# Altium integrated library TI Amplifiers and Linear Operational Amplifier High Speed.IntLib: 1100 symbols (part 6 of 44)
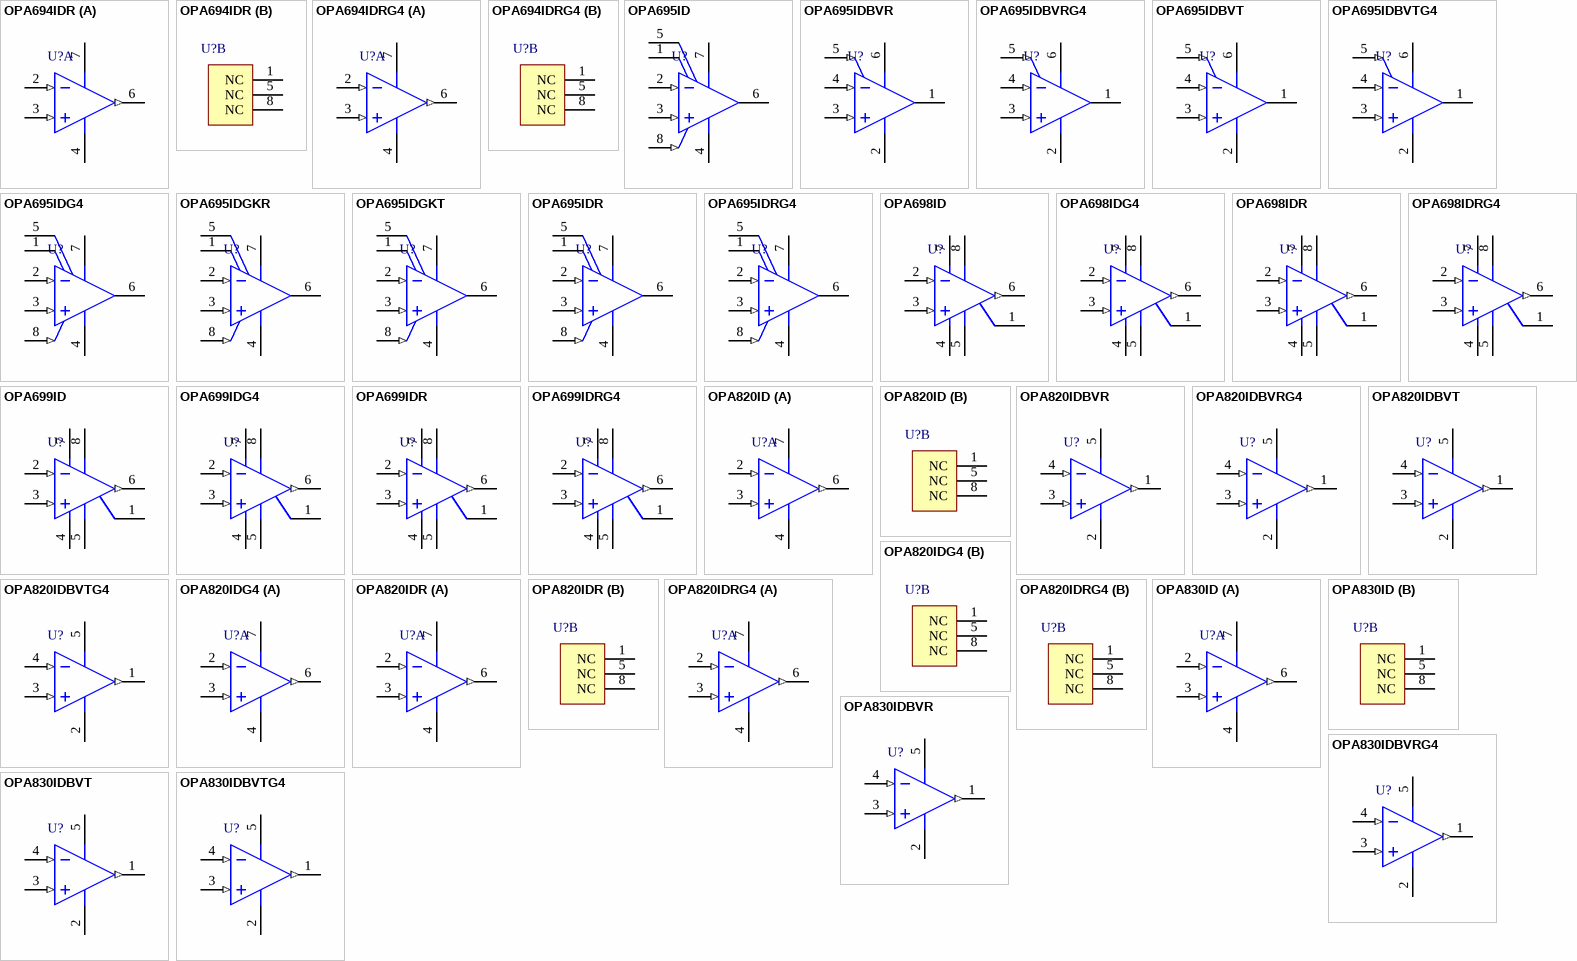
[diagram p56: symbols OPA694IDR to OPA830IDBVTG4]

## OPA698ID
designator U?
Unity Gain Stable, Wideband Voltage Limiting Amplifier, 5 to 12 V, -40 to 85 degC, 8-pin SOIC (D8), Green (RoHS & no Sb/Br); Manufacturer: Texas Instruments; PartNumber: OPA698ID; 2nd Harmonic(dBc): 74; 3rd Harmonic(dBc): 87; @ MHz: 5; Acl, min stable gain(V/V): 1; BW @ Acl(MHz): 450; Diff Gain(%): 0.012; Diff Phase(deg): 0.008; Iib(Max)(nA): 12000; Io(Typ)(mA): 120; Iq per channel(Max)(mA): 16.6; Settling Time (0.1%)(Typ)(ns): 15; Slew Rate(Typ)(V/us): 1100; Sub Family: High Output Current Amplifier (>=50mA), High Speed Amplifier (>=50MHz); THD (Fc is 1 MHz)(Typ)(dB): -90; Vn at Flatband(Typ)(nV/rtHz): 5.6; Vs(Max)(V): 12; DatasheetVersion: SBOS258D; PackageVersion: 4040047-3/M, 06/2011; PackageReference: D8; PackageDescription: 8-Pin Plastic Small Outline, Body 4.9 x 3.9 mm, Pitch 1.27 mm; Supplier 1: Digi-Key; Supplier Part Number 1: 296-15860-5-ND; Supplier 2: Newark; Supplier Part Number 2: 87H2080; Supplier 3: Mouser; Supplier Part Number 3: 595-OPA698ID; Eco-Plan: Green (RoHS & no Sb/Br); Number of Channels: 1; Vio(Max)(mV): 5; Vs(Min)(V): 5; Mounting Technology: Surface Mount; Code_JEDEC: MS-012; ComponentLink1Description: Manufacturer URL; ComponentLink1URL: http://www.ti.com/; ComponentLink2Description: Datasheet; ComponentLink2URL: http://www.ti.com/general/docs/lit/getliterature.tsp?genericPartNumber=OPA698&fileType=pdf; ComponentLink3Description: Package Specification; ComponentLink3URL: http://www.ti.com/litv/pdf/msoi002j
footprint TI-D8_N (SOIC, 8-Leads, Body 4.9x3.9mm, Pitch 1.27mm, IPC Medium Density)
footprint TI-D8_L (SOIC, 8-Leads, Body 4.9x3.9mm, Pitch 1.27mm, IPC High Density)
footprint TI-D8_M (SOIC, 8-Leads, Body 4.9x3.9mm, Pitch 1.27mm, IPC Low Density)
pins: 1 NC, 2 IN- (in), 3 IN+ (in), 4 VS- (power), 5 VL (power), 6 OUT (out), 7 VS+ (power), 8 VH (power)

## OPA698IDG4
designator U?
Unity Gain Stable, Wideband Voltage Limiting Amplifier, 5 to 12 V, -40 to 85 degC, 8-pin SOIC (D8), Green (RoHS & no Sb/Br); Manufacturer: Texas Instruments; PartNumber: OPA698IDG4; 2nd Harmonic(dBc): 74; 3rd Harmonic(dBc): 87; @ MHz: 5; Acl, min stable gain(V/V): 1; BW @ Acl(MHz): 450; Diff Gain(%): 0.012; Diff Phase(deg): 0.008; Iib(Max)(nA): 12000; Io(Typ)(mA): 120; Iq per channel(Max)(mA): 16.6; Settling Time (0.1%)(Typ)(ns): 15; Slew Rate(Typ)(V/us): 1100; Sub Family: High Output Current Amplifier (>=50mA), High Speed Amplifier (>=50MHz); THD (Fc is 1 MHz)(Typ)(dB): -90; Vn at Flatband(Typ)(nV/rtHz): 5.6; Vs(Max)(V): 12; DatasheetVersion: SBOS258D; PackageVersion: 4040047-3/M, 06/2011; PackageReference: D8; PackageDescription: 8-Pin Plastic Small Outline, Body 4.9 x 3.9 mm, Pitch 1.27 mm; Supplier 1: Digi-Key; Supplier Part Number 1: OPA698IDG4-ND; Supplier 2: Farnell; Supplier Part Number 2: 1180151; Supplier 3: Newark; Supplier Part Number 3: 26M1912; Supplier 4: Mouser; Supplier Part Number 4: 595-OPA698IDG4; Eco-Plan: Green (RoHS & no Sb/Br); Number of Channels: 1; Vio(Max)(mV): 5; Vs(Min)(V): 5; Mounting Technology: Surface Mount; Code_JEDEC: MS-012; ComponentLink1Description: Manufacturer URL; ComponentLink1URL: http://www.ti.com/; ComponentLink2Description: Datasheet; ComponentLink2URL: http://www.ti.com/general/docs/lit/getliterature.tsp?genericPartNumber=OPA698&fileType=pdf; ComponentLink3Description: Package Specification; ComponentLink3URL: http://www.ti.com/litv/pdf/msoi002j
footprint TI-D8_N (SOIC, 8-Leads, Body 4.9x3.9mm, Pitch 1.27mm, IPC Medium Density)
footprint TI-D8_L (SOIC, 8-Leads, Body 4.9x3.9mm, Pitch 1.27mm, IPC High Density)
footprint TI-D8_M (SOIC, 8-Leads, Body 4.9x3.9mm, Pitch 1.27mm, IPC Low Density)
pins: 1 NC, 2 IN- (in), 3 IN+ (in), 4 VS- (power), 5 VL (power), 6 OUT (out), 7 VS+ (power), 8 VH (power)

## OPA698IDR
designator U?
Unity Gain Stable, Wideband Voltage Limiting Amplifier, 5 to 12 V, -40 to 85 degC, 8-pin SOIC (D8), Green (RoHS & no Sb/Br); Manufacturer: Texas Instruments; PartNumber: OPA698IDR; 2nd Harmonic(dBc): 74; 3rd Harmonic(dBc): 87; @ MHz: 5; Acl, min stable gain(V/V): 1; BW @ Acl(MHz): 450; Diff Gain(%): 0.012; Diff Phase(deg): 0.008; Iib(Max)(nA): 12000; Io(Typ)(mA): 120; Iq per channel(Max)(mA): 16.6; Settling Time (0.1%)(Typ)(ns): 15; Slew Rate(Typ)(V/us): 1100; Sub Family: High Output Current Amplifier (>=50mA), High Speed Amplifier (>=50MHz); THD (Fc is 1 MHz)(Typ)(dB): -90; Vn at Flatband(Typ)(nV/rtHz): 5.6; Vs(Max)(V): 12; DatasheetVersion: SBOS258D; PackageVersion: 4040047-3/M, 06/2011; PackageReference: D8; PackageDescription: 8-Pin Plastic Small Outline, Body 4.9 x 3.9 mm, Pitch 1.27 mm; Supplier 1: Digi-Key; Supplier Part Number 1: OPA698IDR-ND; Supplier 2: Newark; Supplier Part Number 2: 87H2081; Supplier 3: Mouser; Supplier Part Number 3: 595-OPA698IDR; Eco-Plan: Green (RoHS & no Sb/Br); Number of Channels: 1; Vio(Max)(mV): 5; Vs(Min)(V): 5; Mounting Technology: Surface Mount; Code_JEDEC: MS-012; ComponentLink1Description: Manufacturer URL; ComponentLink1URL: http://www.ti.com/; ComponentLink2Description: Datasheet; ComponentLink2URL: http://www.ti.com/general/docs/lit/getliterature.tsp?genericPartNumber=OPA698&fileType=pdf; ComponentLink3Description: Package Specification; ComponentLink3URL: http://www.ti.com/litv/pdf/msoi002j
footprint TI-D8_N (SOIC, 8-Leads, Body 4.9x3.9mm, Pitch 1.27mm, IPC Medium Density)
footprint TI-D8_L (SOIC, 8-Leads, Body 4.9x3.9mm, Pitch 1.27mm, IPC High Density)
footprint TI-D8_M (SOIC, 8-Leads, Body 4.9x3.9mm, Pitch 1.27mm, IPC Low Density)
pins: 1 NC, 2 IN- (in), 3 IN+ (in), 4 VS- (power), 5 VL (power), 6 OUT (out), 7 VS+ (power), 8 VH (power)

## OPA698IDRG4
designator U?
Unity Gain Stable, Wideband Voltage Limiting Amplifier, 5 to 12 V, -40 to 85 degC, 8-pin SOIC (D8), Green (RoHS & no Sb/Br); Manufacturer: Texas Instruments; PartNumber: OPA698IDRG4; 2nd Harmonic(dBc): 74; 3rd Harmonic(dBc): 87; @ MHz: 5; Acl, min stable gain(V/V): 1; BW @ Acl(MHz): 450; Diff Gain(%): 0.012; Diff Phase(deg): 0.008; Iib(Max)(nA): 12000; Io(Typ)(mA): 120; Iq per channel(Max)(mA): 16.6; Settling Time (0.1%)(Typ)(ns): 15; Slew Rate(Typ)(V/us): 1100; Sub Family: High Output Current Amplifier (>=50mA), High Speed Amplifier (>=50MHz); THD (Fc is 1 MHz)(Typ)(dB): -90; Vn at Flatband(Typ)(nV/rtHz): 5.6; Vs(Max)(V): 12; DatasheetVersion: SBOS258D; PackageVersion: 4040047-3/M, 06/2011; PackageReference: D8; PackageDescription: 8-Pin Plastic Small Outline, Body 4.9 x 3.9 mm, Pitch 1.27 mm; Supplier 1: Digi-Key; Supplier Part Number 1: OPA698IDRG4-ND; Supplier 2: Newark; Supplier Part Number 2: 24K4697; Supplier 3: Mouser; Supplier Part Number 3: 595-OPA698IDRG4; Eco-Plan: Green (RoHS & no Sb/Br); Number of Channels: 1; Vio(Max)(mV): 5; Vs(Min)(V): 5; Mounting Technology: Surface Mount; Code_JEDEC: MS-012; ComponentLink1Description: Manufacturer URL; ComponentLink1URL: http://www.ti.com/; ComponentLink2Description: Datasheet; ComponentLink2URL: http://www.ti.com/general/docs/lit/getliterature.tsp?genericPartNumber=OPA698&fileType=pdf; ComponentLink3Description: Package Specification; ComponentLink3URL: http://www.ti.com/litv/pdf/msoi002j
footprint TI-D8_N (SOIC, 8-Leads, Body 4.9x3.9mm, Pitch 1.27mm, IPC Medium Density)
footprint TI-D8_L (SOIC, 8-Leads, Body 4.9x3.9mm, Pitch 1.27mm, IPC High Density)
footprint TI-D8_M (SOIC, 8-Leads, Body 4.9x3.9mm, Pitch 1.27mm, IPC Low Density)
pins: 1 NC, 2 IN- (in), 3 IN+ (in), 4 VS- (power), 5 VL (power), 6 OUT (out), 7 VS+ (power), 8 VH (power)

## OPA699ID
designator U?
Wideband, High Gain Voltage Limiting Amplifier, 5 to 12 V, -40 to 85 degC, 8-pin SOIC (D8), Green (RoHS & no Sb/Br); Manufacturer: Texas Instruments; PartNumber: OPA699ID; 2nd Harmonic(dBc): 67; 3rd Harmonic(dBc): 86; @ MHz: 5; Acl, min stable gain(V/V): 4; BW @ Acl(MHz): 260; Diff Gain(%): 0.012; Diff Phase(deg): 0.008; Iib(Max)(nA): 12000; Io(Typ)(mA): 120; Iq per channel(Max)(mA): 16.6; Number of Channels: 1; Settling Time (0.1%)(Typ)(ns): 7; Slew Rate(Typ)(V/us): 1400; Sub Family: High Output Current Amplifier (>=50mA), High Speed Amplifier (>=50MHz); THD (Fc is 1 MHz)(Typ)(dB): -83; Vn at Flatband(Typ)(nV/rtHz): 4.1; Vs(Max)(V): 12; DatasheetVersion: SBOS261D; PackageVersion: 4040047-3/M, 06/2011; PackageReference: D8; PackageDescription: 8-Pin Plastic Small Outline, Body 4.9 x 3.9 mm, Pitch 1.27 mm; Supplier 1: Digi-Key; Supplier Part Number 1: 296-15876-5-ND; Supplier 2: Farnell; Supplier Part Number 2: 2127022; Supplier 3: Newark; Supplier Part Number 3: 87H2082; Supplier 4: Mouser; Supplier Part Number 4: 595-OPA699ID; Eco-Plan: Green (RoHS & no Sb/Br); Vio(Max)(mV): 5; Vs(Min)(V): 5; Mounting Technology: Surface Mount; Code_JEDEC: MS-012; ComponentLink1Description: Manufacturer URL; ComponentLink1URL: http://www.ti.com/; ComponentLink2Description: Datasheet; ComponentLink2URL: http://www.ti.com/general/docs/lit/getliterature.tsp?genericPartNumber=OPA699&fileType=pdf; ComponentLink3Description: Package Specification; ComponentLink3URL: http://www.ti.com/litv/pdf/msoi002j
footprint TI-D8_N (SOIC, 8-Leads, Body 4.9x3.9mm, Pitch 1.27mm, IPC Medium Density)
footprint TI-D8_L (SOIC, 8-Leads, Body 4.9x3.9mm, Pitch 1.27mm, IPC High Density)
footprint TI-D8_M (SOIC, 8-Leads, Body 4.9x3.9mm, Pitch 1.27mm, IPC Low Density)
pins: 1 NC, 2 IN- (in), 3 IN+ (in), 4 VS- (power), 5 VL (power), 6 OUT (out), 7 VS+ (power), 8 VH (power)

## OPA699IDG4
designator U?
Wideband, High Gain Voltage Limiting Amplifier, 5 to 12 V, -40 to 85 degC, 8-pin SOIC (D8), Green (RoHS & no Sb/Br); Manufacturer: Texas Instruments; PartNumber: OPA699IDG4; 2nd Harmonic(dBc): 67; 3rd Harmonic(dBc): 86; @ MHz: 5; Acl, min stable gain(V/V): 4; BW @ Acl(MHz): 260; Diff Gain(%): 0.012; Diff Phase(deg): 0.008; Iib(Max)(nA): 12000; Io(Typ)(mA): 120; Iq per channel(Max)(mA): 16.6; Number of Channels: 1; Settling Time (0.1%)(Typ)(ns): 7; Slew Rate(Typ)(V/us): 1400; Sub Family: High Output Current Amplifier (>=50mA), High Speed Amplifier (>=50MHz); THD (Fc is 1 MHz)(Typ)(dB): -83; Vn at Flatband(Typ)(nV/rtHz): 4.1; Vs(Max)(V): 12; DatasheetVersion: SBOS261D; PackageVersion: 4040047-3/M, 06/2011; PackageReference: D8; PackageDescription: 8-Pin Plastic Small Outline, Body 4.9 x 3.9 mm, Pitch 1.27 mm; Supplier 1: Digi-Key; Supplier Part Number 1: OPA699IDG4-ND; Supplier 2: Farnell; Supplier Part Number 2: 1180152; Supplier 3: Newark; Supplier Part Number 3: 81K3713; Supplier 4: Mouser; Supplier Part Number 4: 595-OPA699IDG4; Eco-Plan: Green (RoHS & no Sb/Br); Vio(Max)(mV): 5; Vs(Min)(V): 5; Mounting Technology: Surface Mount; Code_JEDEC: MS-012; ComponentLink1Description: Manufacturer URL; ComponentLink1URL: http://www.ti.com/; ComponentLink2Description: Datasheet; ComponentLink2URL: http://www.ti.com/general/docs/lit/getliterature.tsp?genericPartNumber=OPA699&fileType=pdf; ComponentLink3Description: Package Specification; ComponentLink3URL: http://www.ti.com/litv/pdf/msoi002j
footprint TI-D8_N (SOIC, 8-Leads, Body 4.9x3.9mm, Pitch 1.27mm, IPC Medium Density)
footprint TI-D8_L (SOIC, 8-Leads, Body 4.9x3.9mm, Pitch 1.27mm, IPC High Density)
footprint TI-D8_M (SOIC, 8-Leads, Body 4.9x3.9mm, Pitch 1.27mm, IPC Low Density)
pins: 1 NC, 2 IN- (in), 3 IN+ (in), 4 VS- (power), 5 VL (power), 6 OUT (out), 7 VS+ (power), 8 VH (power)

## OPA699IDR
designator U?
Wideband, High Gain Voltage Limiting Amplifier, 5 to 12 V, -40 to 85 degC, 8-pin SOIC (D8), Green (RoHS & no Sb/Br); Manufacturer: Texas Instruments; PartNumber: OPA699IDR; 2nd Harmonic(dBc): 67; 3rd Harmonic(dBc): 86; @ MHz: 5; Acl, min stable gain(V/V): 4; BW @ Acl(MHz): 260; Diff Gain(%): 0.012; Diff Phase(deg): 0.008; Iib(Max)(nA): 12000; Io(Typ)(mA): 120; Iq per channel(Max)(mA): 16.6; Number of Channels: 1; Settling Time (0.1%)(Typ)(ns): 7; Slew Rate(Typ)(V/us): 1400; Sub Family: High Output Current Amplifier (>=50mA), High Speed Amplifier (>=50MHz); THD (Fc is 1 MHz)(Typ)(dB): -83; Vn at Flatband(Typ)(nV/rtHz): 4.1; Vs(Max)(V): 12; DatasheetVersion: SBOS261D; PackageVersion: 4040047-3/M, 06/2011; PackageReference: D8; PackageDescription: 8-Pin Plastic Small Outline, Body 4.9 x 3.9 mm, Pitch 1.27 mm; Supplier 1: Digi-Key; Supplier Part Number 1: OPA699IDR-ND; Supplier 2: Newark; Supplier Part Number 2: 87H2083; Supplier 3: Mouser; Supplier Part Number 3: 595-OPA699IDR; Eco-Plan: Green (RoHS & no Sb/Br); Vio(Max)(mV): 5; Vs(Min)(V): 5; Mounting Technology: Surface Mount; Code_JEDEC: MS-012; ComponentLink1Description: Manufacturer URL; ComponentLink1URL: http://www.ti.com/; ComponentLink2Description: Datasheet; ComponentLink2URL: http://www.ti.com/general/docs/lit/getliterature.tsp?genericPartNumber=OPA699&fileType=pdf; ComponentLink3Description: Package Specification; ComponentLink3URL: http://www.ti.com/litv/pdf/msoi002j
footprint TI-D8_N (SOIC, 8-Leads, Body 4.9x3.9mm, Pitch 1.27mm, IPC Medium Density)
footprint TI-D8_L (SOIC, 8-Leads, Body 4.9x3.9mm, Pitch 1.27mm, IPC High Density)
footprint TI-D8_M (SOIC, 8-Leads, Body 4.9x3.9mm, Pitch 1.27mm, IPC Low Density)
pins: 1 NC, 2 IN- (in), 3 IN+ (in), 4 VS- (power), 5 VL (power), 6 OUT (out), 7 VS+ (power), 8 VH (power)

## OPA699IDRG4
designator U?
Wideband, High Gain Voltage Limiting Amplifier, 5 to 12 V, -40 to 85 degC, 8-pin SOIC (D8), Green (RoHS & no Sb/Br); Manufacturer: Texas Instruments; PartNumber: OPA699IDRG4; 2nd Harmonic(dBc): 67; 3rd Harmonic(dBc): 86; @ MHz: 5; Acl, min stable gain(V/V): 4; BW @ Acl(MHz): 260; Diff Gain(%): 0.012; Diff Phase(deg): 0.008; Iib(Max)(nA): 12000; Io(Typ)(mA): 120; Iq per channel(Max)(mA): 16.6; Number of Channels: 1; Settling Time (0.1%)(Typ)(ns): 7; Slew Rate(Typ)(V/us): 1400; Sub Family: High Output Current Amplifier (>=50mA), High Speed Amplifier (>=50MHz); THD (Fc is 1 MHz)(Typ)(dB): -83; Vn at Flatband(Typ)(nV/rtHz): 4.1; Vs(Max)(V): 12; DatasheetVersion: SBOS261D; PackageVersion: 4040047-3/M, 06/2011; PackageReference: D8; PackageDescription: 8-Pin Plastic Small Outline, Body 4.9 x 3.9 mm, Pitch 1.27 mm; Supplier 1: Digi-Key; Supplier Part Number 1: OPA699IDRG4-ND; Supplier 2: Newark; Supplier Part Number 2: 80K2682; Supplier 3: Mouser; Supplier Part Number 3: 595-OPA699IDRG4; Eco-Plan: Green (RoHS & no Sb/Br); Vio(Max)(mV): 5; Vs(Min)(V): 5; Mounting Technology: Surface Mount; Code_JEDEC: MS-012; ComponentLink1Description: Manufacturer URL; ComponentLink1URL: http://www.ti.com/; ComponentLink2Description: Datasheet; ComponentLink2URL: http://www.ti.com/general/docs/lit/getliterature.tsp?genericPartNumber=OPA699&fileType=pdf; ComponentLink3Description: Package Specification; ComponentLink3URL: http://www.ti.com/litv/pdf/msoi002j
footprint TI-D8_N (SOIC, 8-Leads, Body 4.9x3.9mm, Pitch 1.27mm, IPC Medium Density)
footprint TI-D8_L (SOIC, 8-Leads, Body 4.9x3.9mm, Pitch 1.27mm, IPC High Density)
footprint TI-D8_M (SOIC, 8-Leads, Body 4.9x3.9mm, Pitch 1.27mm, IPC Low Density)
pins: 1 NC, 2 IN- (in), 3 IN+ (in), 4 VS- (power), 5 VL (power), 6 OUT (out), 7 VS+ (power), 8 VH (power)

## OPA820ID
designator U?
Unity Gain Stable, Low Noise, Voltage Feedback Operational Amplifier, 5 to 12 V, -40 to 85 degC, 8-pin SOIC (D8), Green (RoHS & no Sb/Br); Manufacturer: Texas Instruments; PartNumber: OPA820ID; 2nd Harmonic(dBc): 90; 3rd Harmonic(dBc): 110; @ MHz: 1; BW @ Acl(MHz): 700; Diff Gain(%): 0.01; Diff Phase(deg): 0.03; Iib(Max)(nA): 2300; Iq per channel(Max)(mA): 6.4; Settling Time (0.1%)(Typ)(ns): 26; Slew Rate(Typ)(V/us): 240; Sub Family: High Output Current Amplifier (>=50mA), High Speed Amplifier (>=50MHz); THD (Fc is 1 MHz)(Typ)(dB): -85; Vn at Flatband(Typ)(nV/rtHz): 2.5; Vs(Max)(V): 12; Vs(Min)(V): 5; DatasheetVersion: SBOS303C; PackageVersion: 4040047-3/M, 06/2011; PackageReference: D8; PackageDescription: 8-Pin Plastic Small Outline, Body 4.9 x 3.9 mm, Pitch 1.27 mm; Supplier 1: Digi-Key; Supplier Part Number 1: 296-17130-5-ND; Supplier 2: Farnell; Supplier Part Number 2: 1560648; Supplier 3: Newark; Supplier Part Number 3: 21J8856; Supplier 4: Mouser; Supplier Part Number 4: 595-OPA820ID; Acl, min stable gain(V/V): 1; Eco-Plan: Green (RoHS & no Sb/Br); Io(Typ)(mA): 110; Number of Channels: 1; Vio(Max)(mV): 1; Mounting Technology: Surface Mount; Code_JEDEC: MS-012; ComponentLink1Description: Manufacturer URL; ComponentLink1URL: http://www.ti.com/; ComponentLink2Description: Datasheet; ComponentLink2URL: http://www.ti.com/general/docs/lit/getliterature.tsp?genericPartNumber=OPA820&fileType=pdf; ComponentLink3Description: Package Specification; ComponentLink3URL: http://www.ti.com/litv/pdf/msoi002j
footprint TI-D8_N (SOIC, 8-Leads, Body 4.9x3.9mm, Pitch 1.27mm, IPC Medium Density)
footprint TI-D8_L (SOIC, 8-Leads, Body 4.9x3.9mm, Pitch 1.27mm, IPC High Density)
footprint TI-D8_M (SOIC, 8-Leads, Body 4.9x3.9mm, Pitch 1.27mm, IPC Low Density)
part A pins: 2 IN- (in), 3 IN+ (in), 4 VS- (power), 6 OUT (out), 7 VS+ (power)
part B pins: 1 NC, 5 NC, 8 NC

## OPA820IDBVR
designator U?
Unity Gain Stable, Low Noise, Voltage Feedback Operational Amplifier, 5 to 12 V, -40 to 85 degC, 5-pin SOT23 (DBV5), Green (RoHS & no Sb/Br); Manufacturer: Texas Instruments; PartNumber: OPA820IDBVR; 2nd Harmonic(dBc): 90; 3rd Harmonic(dBc): 110; @ MHz: 1; BW @ Acl(MHz): 700; Diff Gain(%): 0.01; Diff Phase(deg): 0.03; Iib(Max)(nA): 2300; Iq per channel(Max)(mA): 6.4; Settling Time (0.1%)(Typ)(ns): 26; Slew Rate(Typ)(V/us): 240; Sub Family: High Output Current Amplifier (>=50mA), High Speed Amplifier (>=50MHz); THD (Fc is 1 MHz)(Typ)(dB): -85; Vn at Flatband(Typ)(nV/rtHz): 2.5; Vs(Max)(V): 12; Vs(Min)(V): 5; DatasheetVersion: SBOS303C; PackageVersion: 4073253-4/K, 03/2006; PackageReference: DBV5; PackageDescription: 5-Pin Plastic Small Outline, Body 1.6 x 2.9 mm, Pitch 0.95 mm; Supplier 1: Digi-Key; Supplier Part Number 1: 296-32197-2-ND; Supplier 2: Digi-Key; Supplier Part Number 2: 296-32197-1-ND; Supplier 3: Digi-Key; Supplier Part Number 3: 296-32197-6-ND; Supplier 4: Newark; Supplier Part Number 4: 21J8857; Supplier 5: Mouser; Supplier Part Number 5: 595-OPA820IDBVR; Acl, min stable gain(V/V): 1; Eco-Plan: Green (RoHS & no Sb/Br); Io(Typ)(mA): 110; Number of Channels: 1; Vio(Max)(mV): 1; Mounting Technology: Surface Mount; Code_JEDEC: MO-178; ComponentLink1Description: Manufacturer URL; ComponentLink1URL: http://www.ti.com/; ComponentLink2Description: Datasheet; ComponentLink2URL: http://www.ti.com/general/docs/lit/getliterature.tsp?genericPartNumber=OPA820&fileType=pdf; ComponentLink3Description: Package Specification; ComponentLink3URL: http://www.ti.com/litv/pdf/mpds018i
footprint TI-DBV5_N (SOT23, 5-Leads, Body 2.9x1.6mm, Pitch 0.95mm, IPC Medium Density)
footprint TI-DBV5_L (SOT23, 5-Leads, Body 2.9x1.6mm, Pitch 0.95mm, IPC High Density)
footprint TI-DBV5_M (SOT23, 5-Leads, Body 2.9x1.6mm, Pitch 0.95mm, IPC Low Density)
pins: 1 OUT (out), 2 VS- (power), 3 IN+ (in), 4 IN- (in), 5 VS+ (power)

## OPA820IDBVRG4
designator U?
Unity Gain Stable, Low Noise, Voltage Feedback Operational Amplifier, 5 to 12 V, -40 to 85 degC, 5-pin SOT23 (DBV5), Green (RoHS & no Sb/Br); Manufacturer: Texas Instruments; PartNumber: OPA820IDBVRG4; 2nd Harmonic(dBc): 90; 3rd Harmonic(dBc): 110; @ MHz: 1; BW @ Acl(MHz): 700; Diff Gain(%): 0.01; Diff Phase(deg): 0.03; Iib(Max)(nA): 2300; Iq per channel(Max)(mA): 6.4; Settling Time (0.1%)(Typ)(ns): 26; Slew Rate(Typ)(V/us): 240; Sub Family: High Output Current Amplifier (>=50mA), High Speed Amplifier (>=50MHz); THD (Fc is 1 MHz)(Typ)(dB): -85; Vn at Flatband(Typ)(nV/rtHz): 2.5; Vs(Max)(V): 12; Vs(Min)(V): 5; DatasheetVersion: SBOS303C; PackageVersion: 4073253-4/K, 03/2006; PackageReference: DBV5; PackageDescription: 5-Pin Plastic Small Outline, Body 1.6 x 2.9 mm, Pitch 0.95 mm; Supplier 1: Digi-Key; Supplier Part Number 1: OPA820IDBVRG4-ND; Supplier 2: Farnell; Supplier Part Number 2: 9594000; Supplier 3: Mouser; Supplier Part Number 3: 595-OPA820IDBVRG4; Acl, min stable gain(V/V): 1; Eco-Plan: Green (RoHS & no Sb/Br); Io(Typ)(mA): 110; Number of Channels: 1; Vio(Max)(mV): 1; Mounting Technology: Surface Mount; Code_JEDEC: MO-178; ComponentLink1Description: Manufacturer URL; ComponentLink1URL: http://www.ti.com/; ComponentLink2Description: Datasheet; ComponentLink2URL: http://www.ti.com/general/docs/lit/getliterature.tsp?genericPartNumber=OPA820&fileType=pdf; ComponentLink3Description: Package Specification; ComponentLink3URL: http://www.ti.com/litv/pdf/mpds018i
footprint TI-DBV5_N (SOT23, 5-Leads, Body 2.9x1.6mm, Pitch 0.95mm, IPC Medium Density)
footprint TI-DBV5_L (SOT23, 5-Leads, Body 2.9x1.6mm, Pitch 0.95mm, IPC High Density)
footprint TI-DBV5_M (SOT23, 5-Leads, Body 2.9x1.6mm, Pitch 0.95mm, IPC Low Density)
pins: 1 OUT (out), 2 VS- (power), 3 IN+ (in), 4 IN- (in), 5 VS+ (power)

## OPA820IDBVT
designator U?
Unity Gain Stable, Low Noise, Voltage Feedback Operational Amplifier, 5 to 12 V, -40 to 85 degC, 5-pin SOT23 (DBV5), Green (RoHS & no Sb/Br); Manufacturer: Texas Instruments; PartNumber: OPA820IDBVT; 2nd Harmonic(dBc): 90; 3rd Harmonic(dBc): 110; @ MHz: 1; BW @ Acl(MHz): 700; Diff Gain(%): 0.01; Diff Phase(deg): 0.03; Iib(Max)(nA): 2300; Iq per channel(Max)(mA): 6.4; Settling Time (0.1%)(Typ)(ns): 26; Slew Rate(Typ)(V/us): 240; Sub Family: High Output Current Amplifier (>=50mA), High Speed Amplifier (>=50MHz); THD (Fc is 1 MHz)(Typ)(dB): -85; Vn at Flatband(Typ)(nV/rtHz): 2.5; Vs(Max)(V): 12; Vs(Min)(V): 5; DatasheetVersion: SBOS303C; PackageVersion: 4073253-4/K, 03/2006; PackageReference: DBV5; PackageDescription: 5-Pin Plastic Small Outline, Body 1.6 x 2.9 mm, Pitch 0.95 mm; Supplier 1: Digi-Key; Supplier Part Number 1: 296-17131-2-ND; Supplier 2: Digi-Key; Supplier Part Number 2: 296-17131-1-ND; Supplier 3: Digi-Key; Supplier Part Number 3: 296-17131-6-ND; Supplier 4: Farnell; Supplier Part Number 4: 1574989; Supplier 5: Newark; Supplier Part Number 5: 21J8858; Supplier 6: Mouser; Supplier Part Number 6: 595-OPA820IDBVT; Acl, min stable gain(V/V): 1; Eco-Plan: Green (RoHS & no Sb/Br); Io(Typ)(mA): 110; Number of Channels: 1; Vio(Max)(mV): 1; Mounting Technology: Surface Mount; Code_JEDEC: MO-178; ComponentLink1Description: Manufacturer URL; ComponentLink1URL: http://www.ti.com/; ComponentLink2Description: Datasheet; ComponentLink2URL: http://www.ti.com/general/docs/lit/getliterature.tsp?genericPartNumber=OPA820&fileType=pdf; ComponentLink3Description: Package Specification; ComponentLink3URL: http://www.ti.com/litv/pdf/mpds018i
footprint TI-DBV5_N (SOT23, 5-Leads, Body 2.9x1.6mm, Pitch 0.95mm, IPC Medium Density)
footprint TI-DBV5_L (SOT23, 5-Leads, Body 2.9x1.6mm, Pitch 0.95mm, IPC High Density)
footprint TI-DBV5_M (SOT23, 5-Leads, Body 2.9x1.6mm, Pitch 0.95mm, IPC Low Density)
pins: 1 OUT (out), 2 VS- (power), 3 IN+ (in), 4 IN- (in), 5 VS+ (power)

## OPA820IDBVTG4
designator U?
Unity Gain Stable, Low Noise, Voltage Feedback Operational Amplifier, 5 to 12 V, -40 to 85 degC, 5-pin SOT23 (DBV5), Green (RoHS & no Sb/Br); Manufacturer: Texas Instruments; PartNumber: OPA820IDBVTG4; 2nd Harmonic(dBc): 90; 3rd Harmonic(dBc): 110; @ MHz: 1; BW @ Acl(MHz): 700; Diff Gain(%): 0.01; Diff Phase(deg): 0.03; Iib(Max)(nA): 2300; Iq per channel(Max)(mA): 6.4; Settling Time (0.1%)(Typ)(ns): 26; Slew Rate(Typ)(V/us): 240; Sub Family: High Output Current Amplifier (>=50mA), High Speed Amplifier (>=50MHz); THD (Fc is 1 MHz)(Typ)(dB): -85; Vn at Flatband(Typ)(nV/rtHz): 2.5; Vs(Max)(V): 12; Vs(Min)(V): 5; DatasheetVersion: SBOS303C; PackageVersion: 4073253-4/K, 03/2006; PackageReference: DBV5; PackageDescription: 5-Pin Plastic Small Outline, Body 1.6 x 2.9 mm, Pitch 0.95 mm; Supplier 1: Digi-Key; Supplier Part Number 1: OPA820IDBVTG4-ND; Supplier 2: Mouser; Supplier Part Number 2: 595-OPA820IDBVTG4; Acl, min stable gain(V/V): 1; Eco-Plan: Green (RoHS & no Sb/Br); Io(Typ)(mA): 110; Number of Channels: 1; Vio(Max)(mV): 1; Mounting Technology: Surface Mount; Code_JEDEC: MO-178; ComponentLink1Description: Manufacturer URL; ComponentLink1URL: http://www.ti.com/; ComponentLink2Description: Datasheet; ComponentLink2URL: http://www.ti.com/general/docs/lit/getliterature.tsp?genericPartNumber=OPA820&fileType=pdf; ComponentLink3Description: Package Specification; ComponentLink3URL: http://www.ti.com/litv/pdf/mpds018i
footprint TI-DBV5_N (SOT23, 5-Leads, Body 2.9x1.6mm, Pitch 0.95mm, IPC Medium Density)
footprint TI-DBV5_L (SOT23, 5-Leads, Body 2.9x1.6mm, Pitch 0.95mm, IPC High Density)
footprint TI-DBV5_M (SOT23, 5-Leads, Body 2.9x1.6mm, Pitch 0.95mm, IPC Low Density)
pins: 1 OUT (out), 2 VS- (power), 3 IN+ (in), 4 IN- (in), 5 VS+ (power)

## OPA820IDG4
designator U?
Unity Gain Stable, Low Noise, Voltage Feedback Operational Amplifier, 5 to 12 V, -40 to 85 degC, 8-pin SOIC (D8), Green (RoHS & no Sb/Br); Manufacturer: Texas Instruments; PartNumber: OPA820IDG4; 2nd Harmonic(dBc): 90; 3rd Harmonic(dBc): 110; @ MHz: 1; BW @ Acl(MHz): 700; Diff Gain(%): 0.01; Diff Phase(deg): 0.03; Iib(Max)(nA): 2300; Iq per channel(Max)(mA): 6.4; Settling Time (0.1%)(Typ)(ns): 26; Slew Rate(Typ)(V/us): 240; Sub Family: High Output Current Amplifier (>=50mA), High Speed Amplifier (>=50MHz); THD (Fc is 1 MHz)(Typ)(dB): -85; Vn at Flatband(Typ)(nV/rtHz): 2.5; Vs(Max)(V): 12; Vs(Min)(V): 5; DatasheetVersion: SBOS303C; PackageVersion: 4040047-3/M, 06/2011; PackageReference: D8; PackageDescription: 8-Pin Plastic Small Outline, Body 4.9 x 3.9 mm, Pitch 1.27 mm; Supplier 1: Digi-Key; Supplier Part Number 1: OPA820IDG4-ND; Supplier 2: Farnell; Supplier Part Number 2: 1180135; Supplier 3: Mouser; Supplier Part Number 3: 595-OPA820IDG4; Acl, min stable gain(V/V): 1; Eco-Plan: Green (RoHS & no Sb/Br); Io(Typ)(mA): 110; Number of Channels: 1; Vio(Max)(mV): 1; Mounting Technology: Surface Mount; Code_JEDEC: MS-012; ComponentLink1Description: Manufacturer URL; ComponentLink1URL: http://www.ti.com/; ComponentLink2Description: Datasheet; ComponentLink2URL: http://www.ti.com/general/docs/lit/getliterature.tsp?genericPartNumber=OPA820&fileType=pdf; ComponentLink3Description: Package Specification; ComponentLink3URL: http://www.ti.com/litv/pdf/msoi002j
footprint TI-D8_N (SOIC, 8-Leads, Body 4.9x3.9mm, Pitch 1.27mm, IPC Medium Density)
footprint TI-D8_L (SOIC, 8-Leads, Body 4.9x3.9mm, Pitch 1.27mm, IPC High Density)
footprint TI-D8_M (SOIC, 8-Leads, Body 4.9x3.9mm, Pitch 1.27mm, IPC Low Density)
part A pins: 2 IN- (in), 3 IN+ (in), 4 VS- (power), 6 OUT (out), 7 VS+ (power)
part B pins: 1 NC, 5 NC, 8 NC

## OPA820IDR
designator U?
Unity Gain Stable, Low Noise, Voltage Feedback Operational Amplifier, 5 to 12 V, -40 to 85 degC, 8-pin SOIC (D8), Green (RoHS & no Sb/Br); Manufacturer: Texas Instruments; PartNumber: OPA820IDR; 2nd Harmonic(dBc): 90; 3rd Harmonic(dBc): 110; @ MHz: 1; BW @ Acl(MHz): 700; Diff Gain(%): 0.01; Diff Phase(deg): 0.03; Iib(Max)(nA): 2300; Iq per channel(Max)(mA): 6.4; Settling Time (0.1%)(Typ)(ns): 26; Slew Rate(Typ)(V/us): 240; Sub Family: High Output Current Amplifier (>=50mA), High Speed Amplifier (>=50MHz); THD (Fc is 1 MHz)(Typ)(dB): -85; Vn at Flatband(Typ)(nV/rtHz): 2.5; Vs(Max)(V): 12; Vs(Min)(V): 5; DatasheetVersion: SBOS303C; PackageVersion: 4040047-3/M, 06/2011; PackageReference: D8; PackageDescription: 8-Pin Plastic Small Outline, Body 4.9 x 3.9 mm, Pitch 1.27 mm; Supplier 1: Digi-Key; Supplier Part Number 1: OPA820IDR-ND; Supplier 2: Newark; Supplier Part Number 2: 21J8859; Supplier 3: Mouser; Supplier Part Number 3: 595-OPA820IDR; Acl, min stable gain(V/V): 1; Eco-Plan: Green (RoHS & no Sb/Br); Io(Typ)(mA): 110; Number of Channels: 1; Vio(Max)(mV): 1; Mounting Technology: Surface Mount; Code_JEDEC: MS-012; ComponentLink1Description: Manufacturer URL; ComponentLink1URL: http://www.ti.com/; ComponentLink2Description: Datasheet; ComponentLink2URL: http://www.ti.com/general/docs/lit/getliterature.tsp?genericPartNumber=OPA820&fileType=pdf; ComponentLink3Description: Package Specification; ComponentLink3URL: http://www.ti.com/litv/pdf/msoi002j
footprint TI-D8_N (SOIC, 8-Leads, Body 4.9x3.9mm, Pitch 1.27mm, IPC Medium Density)
footprint TI-D8_L (SOIC, 8-Leads, Body 4.9x3.9mm, Pitch 1.27mm, IPC High Density)
footprint TI-D8_M (SOIC, 8-Leads, Body 4.9x3.9mm, Pitch 1.27mm, IPC Low Density)
part A pins: 2 IN- (in), 3 IN+ (in), 4 VS- (power), 6 OUT (out), 7 VS+ (power)
part B pins: 1 NC, 5 NC, 8 NC

## OPA820IDRG4
designator U?
Unity Gain Stable, Low Noise, Voltage Feedback Operational Amplifier, 5 to 12 V, -40 to 85 degC, 8-pin SOIC (D8), Green (RoHS & no Sb/Br); Manufacturer: Texas Instruments; PartNumber: OPA820IDRG4; 2nd Harmonic(dBc): 90; 3rd Harmonic(dBc): 110; @ MHz: 1; BW @ Acl(MHz): 700; Diff Gain(%): 0.01; Diff Phase(deg): 0.03; Iib(Max)(nA): 2300; Iq per channel(Max)(mA): 6.4; Settling Time (0.1%)(Typ)(ns): 26; Slew Rate(Typ)(V/us): 240; Sub Family: High Output Current Amplifier (>=50mA), High Speed Amplifier (>=50MHz); THD (Fc is 1 MHz)(Typ)(dB): -85; Vn at Flatband(Typ)(nV/rtHz): 2.5; Vs(Max)(V): 12; Vs(Min)(V): 5; DatasheetVersion: SBOS303C; PackageVersion: 4040047-3/M, 06/2011; PackageReference: D8; PackageDescription: 8-Pin Plastic Small Outline, Body 4.9 x 3.9 mm, Pitch 1.27 mm; Supplier 1: Digi-Key; Supplier Part Number 1: OPA820IDRG4-ND; Supplier 2: Mouser; Supplier Part Number 2: 595-OPA820IDRG4; Acl, min stable gain(V/V): 1; Eco-Plan: Green (RoHS & no Sb/Br); Io(Typ)(mA): 110; Number of Channels: 1; Vio(Max)(mV): 1; Mounting Technology: Surface Mount; Code_JEDEC: MS-012; ComponentLink1Description: Manufacturer URL; ComponentLink1URL: http://www.ti.com/; ComponentLink2Description: Datasheet; ComponentLink2URL: http://www.ti.com/general/docs/lit/getliterature.tsp?genericPartNumber=OPA820&fileType=pdf; ComponentLink3Description: Package Specification; ComponentLink3URL: http://www.ti.com/litv/pdf/msoi002j
footprint TI-D8_N (SOIC, 8-Leads, Body 4.9x3.9mm, Pitch 1.27mm, IPC Medium Density)
footprint TI-D8_L (SOIC, 8-Leads, Body 4.9x3.9mm, Pitch 1.27mm, IPC High Density)
footprint TI-D8_M (SOIC, 8-Leads, Body 4.9x3.9mm, Pitch 1.27mm, IPC Low Density)
part A pins: 2 IN- (in), 3 IN+ (in), 4 VS- (power), 6 OUT (out), 7 VS+ (power)
part B pins: 1 NC, 5 NC, 8 NC

## OPA830ID
designator U?
Low-Power, Single-Supply Operational Amplifier, 2.8 to 11 V, -40 to 85 degC, 8-pin SOIC (D8), Green (RoHS & no Sb/Br); Manufacturer: Texas Instruments; PartNumber: OPA830ID; Acl, min stable gain(V/V): 1; BW @ Acl(MHz): 250; Iib(Max)(nA): 10; Io(Typ)(mA): 80; Rail-Rail: Out; Sub Family: High Output Current Amplifier (>=50mA), High Speed Amplifier (>=50MHz), Low Offset Voltage Amplifier (<=500uV); Vio(Max)(mV): 0.5; Vn at Flatband(Typ)(nV/rtHz): 9.2; Vs(Max)(V): 11; Vs(Min)(V): 2.8; DatasheetVersion: SBOS263F; PackageVersion: 4040047-3/M, 06/2011; PackageReference: D8; PackageDescription: 8-Pin Plastic Small Outline, Body 4.9 x 3.9 mm, Pitch 1.27 mm; Supplier 1: Digi-Key; Supplier Part Number 1: 296-17400-5-ND; Supplier 2: Newark; Supplier Part Number 2: 43J9656; Supplier 3: Mouser; Supplier Part Number 3: 595-OPA830ID; Eco-Plan: Green (RoHS & no Sb/Br); Number of Channels: 1; Mounting Technology: Surface Mount; Code_JEDEC: MS-012; ComponentLink1Description: Manufacturer URL; ComponentLink1URL: http://www.ti.com/; ComponentLink2Description: Datasheet; ComponentLink2URL: http://www.ti.com/general/docs/lit/getliterature.tsp?genericPartNumber=OPA830&fileType=pdf; ComponentLink3Description: Package Specification; ComponentLink3URL: http://www.ti.com/litv/pdf/msoi002j
footprint TI-D8_N (SOIC, 8-Leads, Body 4.9x3.9mm, Pitch 1.27mm, IPC Medium Density)
footprint TI-D8_L (SOIC, 8-Leads, Body 4.9x3.9mm, Pitch 1.27mm, IPC High Density)
footprint TI-D8_M (SOIC, 8-Leads, Body 4.9x3.9mm, Pitch 1.27mm, IPC Low Density)
part A pins: 2 IN- (in), 3 IN+ (in), 4 VS- (power), 6 OUT (out), 7 VS+ (power)
part B pins: 1 NC, 5 NC, 8 NC

## OPA830IDBVR
designator U?
Low-Power, Single-Supply Operational Amplifier, 2.8 to 11 V, -40 to 85 degC, 5-pin SOT23 (DBV5), Green (RoHS & no Sb/Br); Manufacturer: Texas Instruments; PartNumber: OPA830IDBVR; Acl, min stable gain(V/V): 1; BW @ Acl(MHz): 250; Iib(Max)(nA): 10; Io(Typ)(mA): 80; Rail-Rail: Out; Sub Family: High Output Current Amplifier (>=50mA), High Speed Amplifier (>=50MHz), Low Offset Voltage Amplifier (<=500uV); Vio(Max)(mV): 0.5; Vn at Flatband(Typ)(nV/rtHz): 9.2; Vs(Max)(V): 11; Vs(Min)(V): 2.8; DatasheetVersion: SBOS263F; PackageVersion: 4073253-4/K, 03/2006; PackageReference: DBV5; PackageDescription: 5-Pin Plastic Small Outline, Body 1.6 x 2.9 mm, Pitch 0.95 mm; Supplier 1: Digi-Key; Supplier Part Number 1: OPA830IDBVR-ND; Supplier 2: Newark; Supplier Part Number 2: 43J9657; Supplier 3: Mouser; Supplier Part Number 3: 595-OPA830IDBVR; Eco-Plan: Green (RoHS & no Sb/Br); Number of Channels: 1; Mounting Technology: Surface Mount; Code_JEDEC: MO-178; ComponentLink1Description: Manufacturer URL; ComponentLink1URL: http://www.ti.com/; ComponentLink2Description: Datasheet; ComponentLink2URL: http://www.ti.com/general/docs/lit/getliterature.tsp?genericPartNumber=OPA830&fileType=pdf; ComponentLink3Description: Package Specification; ComponentLink3URL: http://www.ti.com/litv/pdf/mpds018i
footprint TI-DBV5_N (SOT23, 5-Leads, Body 2.9x1.6mm, Pitch 0.95mm, IPC Medium Density)
footprint TI-DBV5_L (SOT23, 5-Leads, Body 2.9x1.6mm, Pitch 0.95mm, IPC High Density)
footprint TI-DBV5_M (SOT23, 5-Leads, Body 2.9x1.6mm, Pitch 0.95mm, IPC Low Density)
pins: 1 OUT (out), 2 VS- (power), 3 IN+ (in), 4 IN- (in), 5 VS+ (power)

## OPA830IDBVRG4
designator U?
Low-Power, Single-Supply Operational Amplifier, 2.8 to 11 V, -40 to 85 degC, 5-pin SOT23 (DBV5), Green (RoHS & no Sb/Br); Manufacturer: Texas Instruments; PartNumber: OPA830IDBVRG4; Acl, min stable gain(V/V): 1; BW @ Acl(MHz): 250; Iib(Max)(nA): 10; Io(Typ)(mA): 80; Rail-Rail: Out; Sub Family: High Output Current Amplifier (>=50mA), High Speed Amplifier (>=50MHz), Low Offset Voltage Amplifier (<=500uV); Vio(Max)(mV): 0.5; Vn at Flatband(Typ)(nV/rtHz): 9.2; Vs(Max)(V): 11; Vs(Min)(V): 2.8; DatasheetVersion: SBOS263F; PackageVersion: 4073253-4/K, 03/2006; PackageReference: DBV5; PackageDescription: 5-Pin Plastic Small Outline, Body 1.6 x 2.9 mm, Pitch 0.95 mm; Supplier 1: Digi-Key; Supplier Part Number 1: OPA830IDBVRG4-ND; Supplier 2: Newark; Supplier Part Number 2: 24K4699; Supplier 3: Mouser; Supplier Part Number 3: 595-OPA830IDBVRG4; Eco-Plan: Green (RoHS & no Sb/Br); Number of Channels: 1; Mounting Technology: Surface Mount; Code_JEDEC: MO-178; ComponentLink1Description: Manufacturer URL; ComponentLink1URL: http://www.ti.com/; ComponentLink2Description: Datasheet; ComponentLink2URL: http://www.ti.com/general/docs/lit/getliterature.tsp?genericPartNumber=OPA830&fileType=pdf; ComponentLink3Description: Package Specification; ComponentLink3URL: http://www.ti.com/litv/pdf/mpds018i
footprint TI-DBV5_N (SOT23, 5-Leads, Body 2.9x1.6mm, Pitch 0.95mm, IPC Medium Density)
footprint TI-DBV5_L (SOT23, 5-Leads, Body 2.9x1.6mm, Pitch 0.95mm, IPC High Density)
footprint TI-DBV5_M (SOT23, 5-Leads, Body 2.9x1.6mm, Pitch 0.95mm, IPC Low Density)
pins: 1 OUT (out), 2 VS- (power), 3 IN+ (in), 4 IN- (in), 5 VS+ (power)

## OPA830IDBVT
designator U?
Low-Power, Single-Supply Operational Amplifier, 2.8 to 11 V, -40 to 85 degC, 5-pin SOT23 (DBV5), Green (RoHS & no Sb/Br); Manufacturer: Texas Instruments; PartNumber: OPA830IDBVT; Acl, min stable gain(V/V): 1; BW @ Acl(MHz): 250; Iib(Max)(nA): 10; Io(Typ)(mA): 80; Rail-Rail: Out; Sub Family: High Output Current Amplifier (>=50mA), High Speed Amplifier (>=50MHz), Low Offset Voltage Amplifier (<=500uV); Vio(Max)(mV): 0.5; Vn at Flatband(Typ)(nV/rtHz): 9.2; Vs(Max)(V): 11; Vs(Min)(V): 2.8; DatasheetVersion: SBOS263F; PackageVersion: 4073253-4/K, 03/2006; PackageReference: DBV5; PackageDescription: 5-Pin Plastic Small Outline, Body 1.6 x 2.9 mm, Pitch 0.95 mm; Supplier 1: Digi-Key; Supplier Part Number 1: 296-17401-2-ND; Supplier 2: Digi-Key; Supplier Part Number 2: 296-17401-1-ND; Supplier 3: Digi-Key; Supplier Part Number 3: 296-17401-6-ND; Supplier 4: Newark; Supplier Part Number 4: 43J9658; Supplier 5: Mouser; Supplier Part Number 5: 595-OPA830IDBVT; Eco-Plan: Green (RoHS & no Sb/Br); Number of Channels: 1; Mounting Technology: Surface Mount; Code_JEDEC: MO-178; ComponentLink1Description: Manufacturer URL; ComponentLink1URL: http://www.ti.com/; ComponentLink2Description: Datasheet; ComponentLink2URL: http://www.ti.com/general/docs/lit/getliterature.tsp?genericPartNumber=OPA830&fileType=pdf; ComponentLink3Description: Package Specification; ComponentLink3URL: http://www.ti.com/litv/pdf/mpds018i
footprint TI-DBV5_N (SOT23, 5-Leads, Body 2.9x1.6mm, Pitch 0.95mm, IPC Medium Density)
footprint TI-DBV5_L (SOT23, 5-Leads, Body 2.9x1.6mm, Pitch 0.95mm, IPC High Density)
footprint TI-DBV5_M (SOT23, 5-Leads, Body 2.9x1.6mm, Pitch 0.95mm, IPC Low Density)
pins: 1 OUT (out), 2 VS- (power), 3 IN+ (in), 4 IN- (in), 5 VS+ (power)

## OPA830IDBVTG4
designator U?
Low-Power, Single-Supply Operational Amplifier, 2.8 to 11 V, -40 to 85 degC, 5-pin SOT23 (DBV5), Green (RoHS & no Sb/Br); Manufacturer: Texas Instruments; PartNumber: OPA830IDBVTG4; Acl, min stable gain(V/V): 1; BW @ Acl(MHz): 250; Iib(Max)(nA): 10; Io(Typ)(mA): 80; Rail-Rail: Out; Sub Family: High Output Current Amplifier (>=50mA), High Speed Amplifier (>=50MHz), Low Offset Voltage Amplifier (<=500uV); Vio(Max)(mV): 0.5; Vn at Flatband(Typ)(nV/rtHz): 9.2; Vs(Max)(V): 11; Vs(Min)(V): 2.8; DatasheetVersion: SBOS263F; PackageVersion: 4073253-4/K, 03/2006; PackageReference: DBV5; PackageDescription: 5-Pin Plastic Small Outline, Body 1.6 x 2.9 mm, Pitch 0.95 mm; Supplier 1: Digi-Key; Supplier Part Number 1: OPA830IDBVTG4-ND; Supplier 2: Newark; Supplier Part Number 2: 24K4700; Supplier 3: Mouser; Supplier Part Number 3: 595-OPA830IDBVTG4; Eco-Plan: Green (RoHS & no Sb/Br); Number of Channels: 1; Mounting Technology: Surface Mount; Code_JEDEC: MO-178; ComponentLink1Description: Manufacturer URL; ComponentLink1URL: http://www.ti.com/; ComponentLink2Description: Datasheet; ComponentLink2URL: http://www.ti.com/general/docs/lit/getliterature.tsp?genericPartNumber=OPA830&fileType=pdf; ComponentLink3Description: Package Specification; ComponentLink3URL: http://www.ti.com/litv/pdf/mpds018i
footprint TI-DBV5_N (SOT23, 5-Leads, Body 2.9x1.6mm, Pitch 0.95mm, IPC Medium Density)
footprint TI-DBV5_L (SOT23, 5-Leads, Body 2.9x1.6mm, Pitch 0.95mm, IPC High Density)
footprint TI-DBV5_M (SOT23, 5-Leads, Body 2.9x1.6mm, Pitch 0.95mm, IPC Low Density)
pins: 1 OUT (out), 2 VS- (power), 3 IN+ (in), 4 IN- (in), 5 VS+ (power)

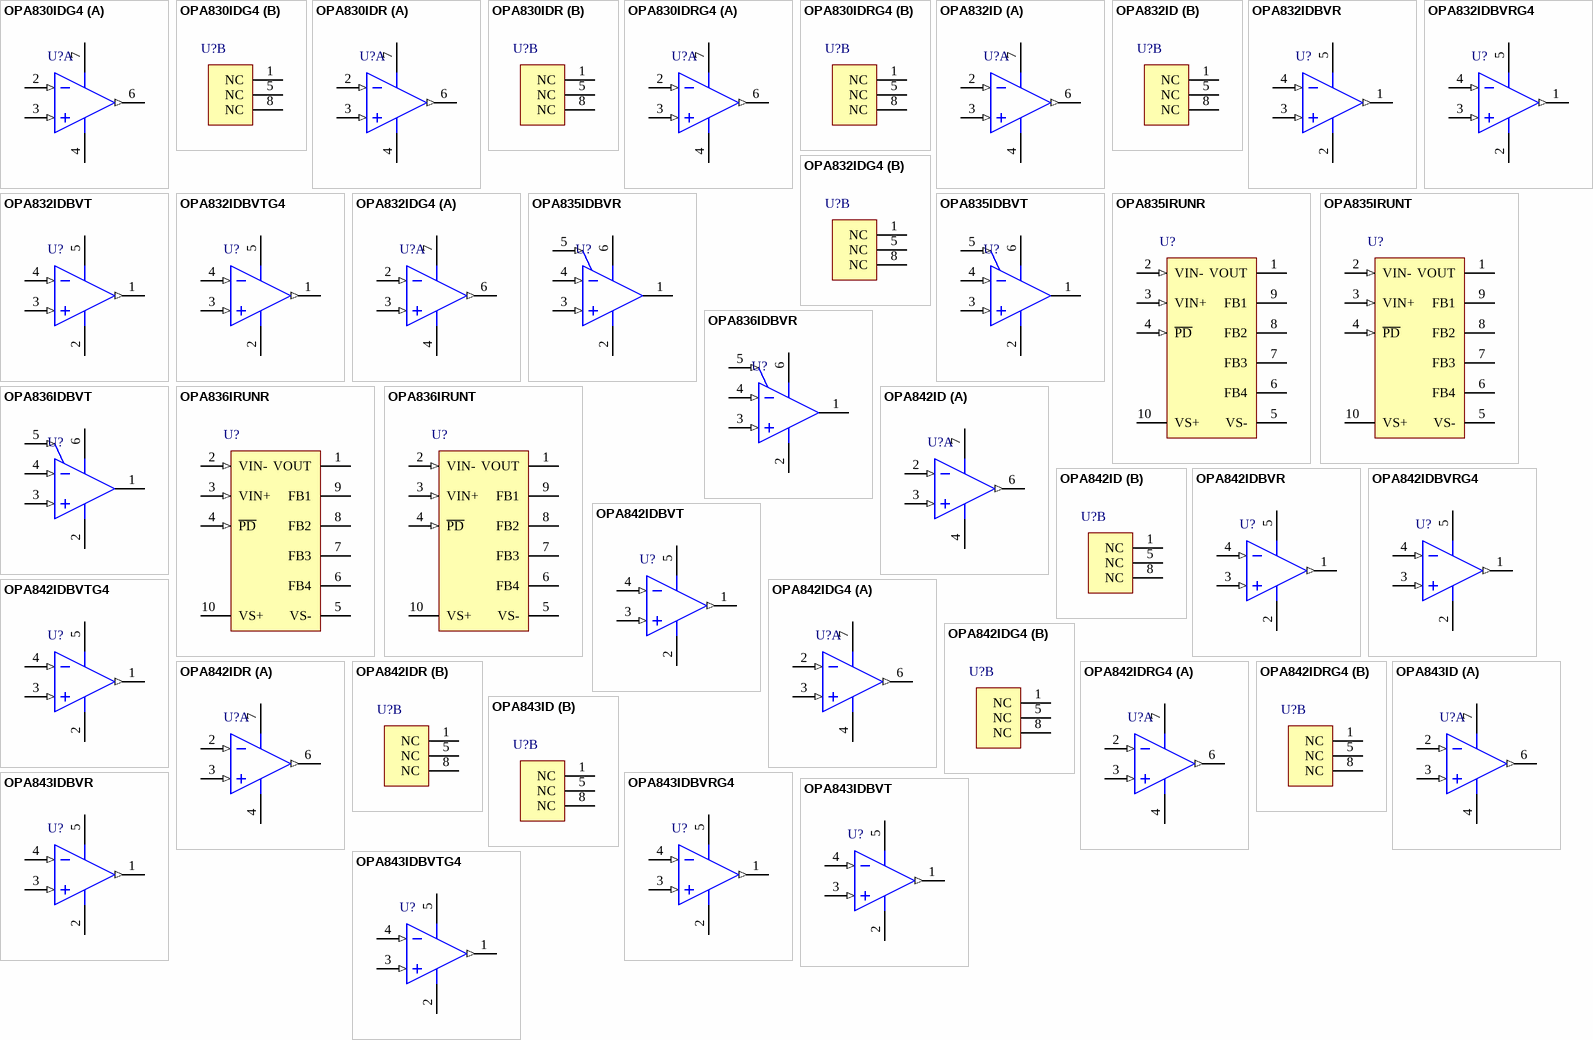
[diagram p5: symbols OPA830IDG4 to OPA843IDBVTG4]

## OPA830IDG4
designator U?
Low-Power, Single-Supply Operational Amplifier, 2.8 to 11 V, -40 to 85 degC, 8-pin SOIC (D8), Green (RoHS & no Sb/Br); Manufacturer: Texas Instruments; PartNumber: OPA830IDG4; Acl, min stable gain(V/V): 1; BW @ Acl(MHz): 250; Iib(Max)(nA): 10; Io(Typ)(mA): 80; Rail-Rail: Out; Sub Family: High Output Current Amplifier (>=50mA), High Speed Amplifier (>=50MHz), Low Offset Voltage Amplifier (<=500uV); Vio(Max)(mV): 0.5; Vn at Flatband(Typ)(nV/rtHz): 9.2; Vs(Max)(V): 11; Vs(Min)(V): 2.8; DatasheetVersion: SBOS263F; PackageVersion: 4040047-3/M, 06/2011; PackageReference: D8; PackageDescription: 8-Pin Plastic Small Outline, Body 4.9 x 3.9 mm, Pitch 1.27 mm; Supplier 1: Digi-Key; Supplier Part Number 1: OPA830IDG4-ND; Supplier 2: Mouser; Supplier Part Number 2: 595-OPA830IDG4; Eco-Plan: Green (RoHS & no Sb/Br); Number of Channels: 1; Mounting Technology: Surface Mount; Code_JEDEC: MS-012; ComponentLink1Description: Manufacturer URL; ComponentLink1URL: http://www.ti.com/; ComponentLink2Description: Datasheet; ComponentLink2URL: http://www.ti.com/general/docs/lit/getliterature.tsp?genericPartNumber=OPA830&fileType=pdf; ComponentLink3Description: Package Specification; ComponentLink3URL: http://www.ti.com/litv/pdf/msoi002j
footprint TI-D8_N (SOIC, 8-Leads, Body 4.9x3.9mm, Pitch 1.27mm, IPC Medium Density)
footprint TI-D8_L (SOIC, 8-Leads, Body 4.9x3.9mm, Pitch 1.27mm, IPC High Density)
footprint TI-D8_M (SOIC, 8-Leads, Body 4.9x3.9mm, Pitch 1.27mm, IPC Low Density)
part A pins: 2 IN- (in), 3 IN+ (in), 4 VS- (power), 6 OUT (out), 7 VS+ (power)
part B pins: 1 NC, 5 NC, 8 NC

## OPA830IDR
designator U?
Low-Power, Single-Supply Operational Amplifier, 2.8 to 11 V, -40 to 85 degC, 8-pin SOIC (D8), Green (RoHS & no Sb/Br); Manufacturer: Texas Instruments; PartNumber: OPA830IDR; Acl, min stable gain(V/V): 1; BW @ Acl(MHz): 250; Iib(Max)(nA): 10; Io(Typ)(mA): 80; Rail-Rail: Out; Sub Family: High Output Current Amplifier (>=50mA), High Speed Amplifier (>=50MHz), Low Offset Voltage Amplifier (<=500uV); Vio(Max)(mV): 0.5; Vn at Flatband(Typ)(nV/rtHz): 9.2; Vs(Max)(V): 11; Vs(Min)(V): 2.8; DatasheetVersion: SBOS263F; PackageVersion: 4040047-3/M, 06/2011; PackageReference: D8; PackageDescription: 8-Pin Plastic Small Outline, Body 4.9 x 3.9 mm, Pitch 1.27 mm; Supplier 1: Digi-Key; Supplier Part Number 1: OPA830IDR-ND; Supplier 2: Mouser; Supplier Part Number 2: 595-OPA830IDR; Eco-Plan: Green (RoHS & no Sb/Br); Number of Channels: 1; Mounting Technology: Surface Mount; Code_JEDEC: MS-012; ComponentLink1Description: Manufacturer URL; ComponentLink1URL: http://www.ti.com/; ComponentLink2Description: Datasheet; ComponentLink2URL: http://www.ti.com/general/docs/lit/getliterature.tsp?genericPartNumber=OPA830&fileType=pdf; ComponentLink3Description: Package Specification; ComponentLink3URL: http://www.ti.com/litv/pdf/msoi002j
footprint TI-D8_N (SOIC, 8-Leads, Body 4.9x3.9mm, Pitch 1.27mm, IPC Medium Density)
footprint TI-D8_L (SOIC, 8-Leads, Body 4.9x3.9mm, Pitch 1.27mm, IPC High Density)
footprint TI-D8_M (SOIC, 8-Leads, Body 4.9x3.9mm, Pitch 1.27mm, IPC Low Density)
part A pins: 2 IN- (in), 3 IN+ (in), 4 VS- (power), 6 OUT (out), 7 VS+ (power)
part B pins: 1 NC, 5 NC, 8 NC

## OPA830IDRG4
designator U?
Low-Power, Single-Supply Operational Amplifier, 2.8 to 11 V, -40 to 85 degC, 8-pin SOIC (D8), Green (RoHS & no Sb/Br); Manufacturer: Texas Instruments; PartNumber: OPA830IDRG4; 2nd Harmonic(dBc): 62; 3rd Harmonic(dBc): 58; Acl, min stable gain(V/V): 1; BW @ Acl(MHz): 250; Diff Gain(%): 0.08; Diff Phase(deg): 0.09; Iib(Max)(nA): 13000; Io(Typ)(mA): 80; Settling Time (0.1%)(Typ)(ns): 43; Slew Rate(Typ)(V/us): 550; Sub Family: High Output Current Amplifier (>=50mA), High Speed Amplifier (>=50MHz), Low Offset Voltage Amplifier (<=500uV); Vio(Max)(mV): 6.5; Vn at Flatband(Typ)(nV/rtHz): 9.2; Vs(Max)(V): 11; Vs(Min)(V): 2.8; DatasheetVersion: SBOS263F; PackageVersion: 4040047-3/M, 06/2011; PackageReference: D8; PackageDescription: 8-Pin Plastic Small Outline, Body 4.9 x 3.9 mm, Pitch 1.27 mm; Supplier 1: Digi-Key; Supplier Part Number 1: OPA830IDRG4-ND; Supplier 2: Mouser; Supplier Part Number 2: 595-OPA830IDRG4; Eco-Plan: Green (RoHS & no Sb/Br); Number of Channels: 1; Mounting Technology: Surface Mount; Code_JEDEC: MS-012; ComponentLink1Description: Manufacturer URL; ComponentLink1URL: http://www.ti.com/; ComponentLink2Description: Datasheet; ComponentLink2URL: http://www.ti.com/general/docs/lit/getliterature.tsp?genericPartNumber=OPA830&fileType=pdf; ComponentLink3Description: Package Specification; ComponentLink3URL: http://www.ti.com/litv/pdf/msoi002j
footprint TI-D8_N (SOIC, 8-Leads, Body 4.9x3.9mm, Pitch 1.27mm, IPC Medium Density)
footprint TI-D8_L (SOIC, 8-Leads, Body 4.9x3.9mm, Pitch 1.27mm, IPC High Density)
footprint TI-D8_M (SOIC, 8-Leads, Body 4.9x3.9mm, Pitch 1.27mm, IPC Low Density)
part A pins: 2 IN- (in), 3 IN+ (in), 4 VS- (power), 6 OUT (out), 7 VS+ (power)
part B pins: 1 NC, 5 NC, 8 NC

## OPA832ID
designator U?
Low-Power, Single-Supply, Fixed-Gain Video Buffer Amplifier, 2.8 to 11 V, -40 to 85 degC, 8-pin SOIC (D8), Green (RoHS & no Sb/Br); Manufacturer: Texas Instruments; PartNumber: OPA832ID; 2nd Harmonic(dBc): 64; 3rd Harmonic(dBc): 57; Acl, min stable gain(V/V): 1; BW @ Acl(MHz): 80; Diff Gain(%): 0.1; Diff Phase(deg): 0.16; Iib(Max)(nA): 13000; Settling Time (0.1%)(Typ)(ns): 45; Slew Rate(Typ)(V/us): 350; Sub Family: High Output Current Amplifier (>=50mA), High Speed Amplifier (>=50MHz); Vio(Max)(mV): 8.5; Vn at Flatband(Typ)(nV/rtHz): 9.3; Vs(Max)(V): 11; Vs(Min)(V): 2.8; DatasheetVersion: SBOS266E; PackageVersion: 4040047-3/M, 06/2011; PackageReference: D8; PackageDescription: 8-Pin Plastic Small Outline, Body 4.9 x 3.9 mm, Pitch 1.27 mm; Supplier 1: Digi-Key; Supplier Part Number 1: 296-17325-5-ND; Supplier 2: Newark; Supplier Part Number 2: 43J9660; Supplier 3: Mouser; Supplier Part Number 3: 595-OPA832ID; Eco-Plan: Green (RoHS & no Sb/Br); Io(Typ)(mA): 80; Number of Channels: 1; Mounting Technology: Surface Mount; Code_JEDEC: MS-012; ComponentLink1Description: Manufacturer URL; ComponentLink1URL: http://www.ti.com/; ComponentLink2Description: Datasheet; ComponentLink2URL: http://www.ti.com/general/docs/lit/getliterature.tsp?genericPartNumber=OPA832&fileType=pdf; ComponentLink3Description: Package Specification; ComponentLink3URL: http://www.ti.com/litv/pdf/msoi002j
footprint TI-D8_N (SOIC, 8-Leads, Body 4.9x3.9mm, Pitch 1.27mm, IPC Medium Density)
footprint TI-D8_L (SOIC, 8-Leads, Body 4.9x3.9mm, Pitch 1.27mm, IPC High Density)
footprint TI-D8_M (SOIC, 8-Leads, Body 4.9x3.9mm, Pitch 1.27mm, IPC Low Density)
part A pins: 2 IN- (in), 3 IN+ (in), 4 VS- (power), 6 OUT (out), 7 VS+ (power)
part B pins: 1 NC, 5 NC, 8 NC

## OPA832IDBVR
designator U?
Low-Power, Single-Supply, Fixed-Gain Video Buffer Amplifier, 2.8 to 11 V, -40 to 85 degC, 5-pin SOT23 (DBV5), Green (RoHS & no Sb/Br); Manufacturer: Texas Instruments; PartNumber: OPA832IDBVR; Acl, min stable gain(V/V): 1; BW @ Acl(MHz): 92; Iib(Max)(nA): 10; Io(Typ)(mA): 80; Rail-Rail: Out; Sub Family: High Output Current Amplifier (>=50mA), High Speed Amplifier (>=50MHz); Vio(Max)(mV): 5; Vn at Flatband(Typ)(nV/rtHz): 9.3; Vs(Max)(V): 11; Vs(Min)(V): 2.8; DatasheetVersion: SBOS266E; PackageVersion: 4073253-4/K, 03/2006; PackageReference: DBV5; PackageDescription: 5-Pin Plastic Small Outline, Body 1.6 x 2.9 mm, Pitch 0.95 mm; Supplier 1: Digi-Key; Supplier Part Number 1: OPA832IDBVR-ND; Supplier 2: Newark; Supplier Part Number 2: 43J9661; Supplier 3: Mouser; Supplier Part Number 3: 595-OPA832IDBVR; Eco-Plan: Green (RoHS & no Sb/Br); Number of Channels: 1; Mounting Technology: Surface Mount; Code_JEDEC: MO-178; ComponentLink1Description: Manufacturer URL; ComponentLink1URL: http://www.ti.com/; ComponentLink2Description: Datasheet; ComponentLink2URL: http://www.ti.com/general/docs/lit/getliterature.tsp?genericPartNumber=OPA832&fileType=pdf; ComponentLink3Description: Package Specification; ComponentLink3URL: http://www.ti.com/litv/pdf/mpds018i
footprint TI-DBV5_N (SOT23, 5-Leads, Body 2.9x1.6mm, Pitch 0.95mm, IPC Medium Density)
footprint TI-DBV5_L (SOT23, 5-Leads, Body 2.9x1.6mm, Pitch 0.95mm, IPC High Density)
footprint TI-DBV5_M (SOT23, 5-Leads, Body 2.9x1.6mm, Pitch 0.95mm, IPC Low Density)
pins: 1 OUT (out), 2 VS- (power), 3 IN+ (in), 4 IN- (in), 5 VS+ (power)

## OPA832IDBVRG4
designator U?
Low-Power, Single-Supply, Fixed-Gain Video Buffer Amplifier, 2.8 to 11 V, -40 to 85 degC, 5-pin SOT23 (DBV5), Green (RoHS & no Sb/Br); Manufacturer: Texas Instruments; PartNumber: OPA832IDBVRG4; Acl, min stable gain(V/V): 1; BW @ Acl(MHz): 92; Iib(Max)(nA): 10; Io(Typ)(mA): 80; Rail-Rail: Out; Sub Family: High Output Current Amplifier (>=50mA), High Speed Amplifier (>=50MHz); Vio(Max)(mV): 5; Vn at Flatband(Typ)(nV/rtHz): 9.3; Vs(Max)(V): 11; Vs(Min)(V): 2.8; DatasheetVersion: SBOS266E; PackageVersion: 4073253-4/K, 03/2006; PackageReference: DBV5; PackageDescription: 5-Pin Plastic Small Outline, Body 1.6 x 2.9 mm, Pitch 0.95 mm; Supplier 1: Digi-Key; Supplier Part Number 1: OPA832IDBVRG4-ND; Supplier 2: Newark; Supplier Part Number 2: 24K4701; Supplier 3: Mouser; Supplier Part Number 3: 595-OPA832IDBVRG4; Eco-Plan: Green (RoHS & no Sb/Br); Number of Channels: 1; Mounting Technology: Surface Mount; Code_JEDEC: MO-178; ComponentLink1Description: Manufacturer URL; ComponentLink1URL: http://www.ti.com/; ComponentLink2Description: Datasheet; ComponentLink2URL: http://www.ti.com/general/docs/lit/getliterature.tsp?genericPartNumber=OPA832&fileType=pdf; ComponentLink3Description: Package Specification; ComponentLink3URL: http://www.ti.com/litv/pdf/mpds018i
footprint TI-DBV5_N (SOT23, 5-Leads, Body 2.9x1.6mm, Pitch 0.95mm, IPC Medium Density)
footprint TI-DBV5_L (SOT23, 5-Leads, Body 2.9x1.6mm, Pitch 0.95mm, IPC High Density)
footprint TI-DBV5_M (SOT23, 5-Leads, Body 2.9x1.6mm, Pitch 0.95mm, IPC Low Density)
pins: 1 OUT (out), 2 VS- (power), 3 IN+ (in), 4 IN- (in), 5 VS+ (power)